# Altium schematic symbol library NPTC041KFXC-RC.SchLib: 1 symbol
Pins are listed as number, name and electrical type; pins without a type are passive.

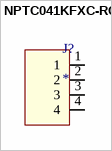
[diagram p0: symbol NPTC041KFXC-RC]

## NPTC041KFXC-RC
designator J?
CONN HDR 4POS 0.1 TIN SMD / Manufacturer PN: NPTC041KFXC-RC
footprint NPTC041KFXC-RX
pins: 1, 2, 3, 4